# Altium schematic symbol library schlib.SchLib: 3 symbols
Pins are listed as number, name and electrical type; pins without a type are passive.

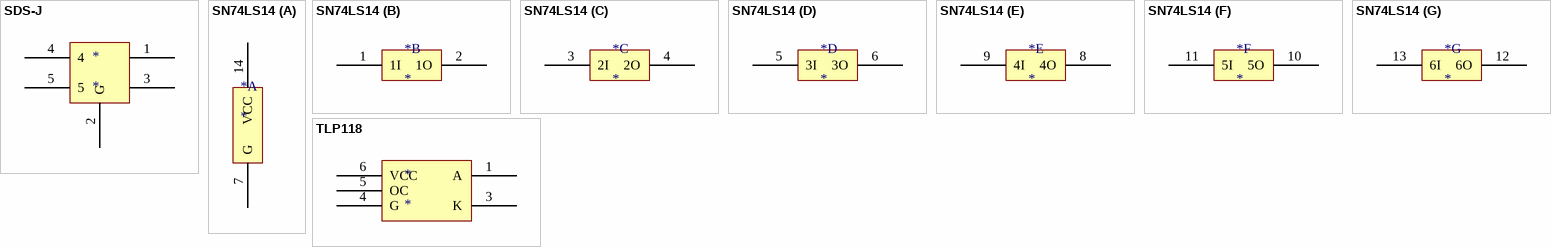
[diagram p0: symbols SDS-J to TLP118]

## SDS-J
designator *
pins: 1, 2 G, 3, 4, 5

## SN74LS14
designator *
part A pins: 7 G, 14 VCC
part B pins: 1 1I, 2 1O
part C pins: 3 2I, 4 2O
part D pins: 5 3I, 6 3O
part E pins: 8 4O, 9 4I
part F pins: 10 5O, 11 5I
part G pins: 12 6O, 13 6I

## TLP118
designator *
pins: 1 A, 3 K, 4 G, 5 OC, 6 VCC